# Altium footprint library CP2102-GMR.PcbLib: 3 footprints
Each footprint in its own frame and in the unit in brackets; x right, y up, seen from the top. Pads: shape width x height; smd on the part's side, far side on the other; paste and mask are expansions set on the pad; w line width, h text height; cw(c..) or ccw(c..) is an arc to the next point about the centre after c.
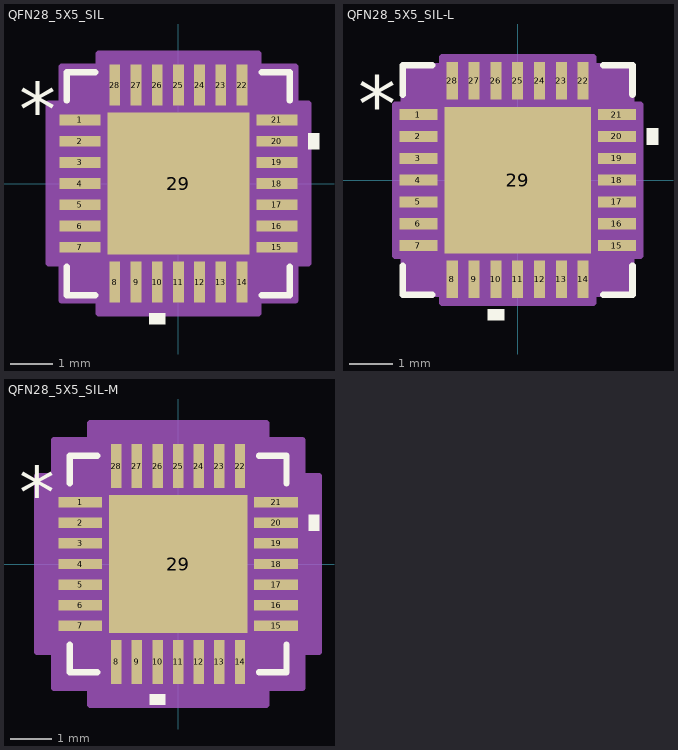
[diagram p0: the footprints below, top view; thin cyan lines are the x and y axes]

## QFN28_5X5_SIL [mil]
pads (29):
  rect 38x10 smd paste+0 mask+0: 1(-91.5,59.06) 2(-91.5,39.37) 3(-91.5,19.68) 4(-91.5,0) 5(-91.5,-19.68) 6(-91.5,-39.37) 7(-91.5,-59.06) 15(91.5,-59.06) 16(91.5,-39.37) 17(91.5,-19.68) 18(91.5,0) 19(91.5,19.68) 20(91.5,39.37) 21(91.5,59.06)
  rect 10x38 smd paste+0 mask+0: 8(-59.06,-91.5) 9(-39.37,-91.5) 10(-19.68,-91.5) 11(0,-91.5) 12(19.68,-91.5) 13(39.37,-91.5) 14(59.06,-91.5) 22(59.06,91.5) 23(39.37,91.5) 24(19.68,91.5) 25(0,91.5) 26(-19.68,91.5) 27(-39.37,91.5) 28(-59.06,91.5)
  rect 132x132 smd paste-66 mask+0: 29(0,0)
Top Overlay:
  region: -12.19,-120.5 -27.18,-120.5 -27.18,-130.5 -12.19,-130.5
  region: 120.5,46.87 130.5,46.87 130.5,31.87 120.5,31.87
  lines w6: -103.5,-77.16 -103.5,-103.5 -77.16,-103.5 ; -103.5,77.16 -103.5,103.5 -77.16,103.5 ; 77.16,-103.5 103.5,-103.5 103.5,-77.16 ; 77.16,103.5 103.5,103.5 103.5,77.16
  text "*" at -148,43.9 h50
Top Paste:
  region: -3.94,62.06 -62.06,62.06 -62.06,3.94 -3.94,3.94
  region: -3.94,-3.94 -62.06,-3.94 -62.06,-62.06 -3.94,-62.06
  region: 62.06,62.06 3.94,62.06 3.94,3.94 62.06,3.94
  region: 62.06,-3.94 3.94,-3.94 3.94,-62.06 62.06,-62.06
Mechanical 13:
  lines w1: -98.5,48.5 -48.5,98.5 ; -98.5,-98.5 98.5,-98.5 ; -98.5,-98.5 -98.5,98.5 ; -98.5,-98.5 -98.5,-98.5 ; -98.5,-65.06 -98.5,-53.06 ; -98.5,-65.06 -98.5,-53.06 ; -98.5,-65.06 -98.5,-65.06 ; -98.5,-53.06 -98.5,-53.06 ; -98.5,-45.37 -98.5,-33.37 ; -98.5,-45.37 -98.5,-33.37 ; -98.5,-45.37 -98.5,-45.37 ; -98.5,-33.37 -98.5,-33.37 ; -98.5,-25.68 -98.5,-13.69 ; -98.5,-25.68 -98.5,-13.69 ; -98.5,-25.68 -98.5,-25.68 ; -98.5,-13.69 -98.5,-13.69 ; -98.5,-6 -98.5,6 ; -98.5,-6 -98.5,6 ; -98.5,-6 -98.5,-6 ; -98.5,6 -98.5,6 ; -98.5,13.69 -98.5,25.68 ; -98.5,13.69 -98.5,25.68 ; -98.5,13.69 -98.5,13.69 ; -98.5,25.68 -98.5,25.68 ; -98.5,33.37 -98.5,45.37 ; -98.5,33.37 -98.5,45.37 ; -98.5,33.37 -98.5,33.37 ; -98.5,45.37 -98.5,45.37 ; -98.5,53.06 -98.5,65.06 ; -98.5,53.06 -98.5,65.06 ; -98.5,53.06 -98.5,53.06 ; -98.5,65.06 -98.5,65.06 ; -98.5,98.5 98.5,98.5 ; -98.5,98.5 -98.5,98.5 ; -65.06,-98.5 -53.06,-98.5 ; -65.06,-98.5 -65.06,-98.5 ; -65.06,-98.5 -53.06,-98.5 ; -65.06,98.5 -53.06,98.5 ; -65.06,98.5 -53.06,98.5 ; -65.06,98.5 -65.06,98.5 ; -53.06,-98.5 -53.06,-98.5 ; -53.06,98.5 -53.06,98.5 ; -45.37,-98.5 -33.37,-98.5 ; -45.37,-98.5 -45.37,-98.5 ; -45.37,-98.5 -33.37,-98.5 ; -45.37,98.5 -33.37,98.5 ; -45.37,98.5 -33.37,98.5 ; -45.37,98.5 -45.37,98.5 ; -33.37,-98.5 -33.37,-98.5 ; -33.37,98.5 -33.37,98.5 ; -25.68,-98.5 -13.69,-98.5 ; -25.68,-98.5 -25.68,-98.5 ; -25.68,-98.5 -13.69,-98.5 ; -25.68,98.5 -13.69,98.5 ; -25.68,98.5 -13.69,98.5 ; -25.68,98.5 -25.68,98.5 ; -13.69,-98.5 -13.69,-98.5 ; -13.69,98.5 -13.69,98.5 ; -6,-98.5 6,-98.5 ; -6,-98.5 -6,-98.5 ; -6,-98.5 6,-98.5 ; -6,98.5 6,98.5 ; -6,98.5 6,98.5 ; -6,98.5 -6,98.5 ; 6,-98.5 6,-98.5 ; 6,98.5 6,98.5 ; 13.69,-98.5 25.68,-98.5 ; 13.69,-98.5 13.69,-98.5 ; 13.69,-98.5 25.68,-98.5 ; 13.69,98.5 25.68,98.5 ; 13.69,98.5 25.68,98.5 ; 13.69,98.5 13.69,98.5 ; 25.68,-98.5 25.68,-98.5 ; 25.68,98.5 25.68,98.5 ; 33.37,-98.5 45.37,-98.5 ; 33.37,-98.5 33.37,-98.5 ; 33.37,-98.5 45.37,-98.5 ; 33.37,98.5 45.37,98.5 ; 33.37,98.5 45.37,98.5 ; 33.37,98.5 33.37,98.5 ; 45.37,-98.5 45.37,-98.5 ; 45.37,98.5 45.37,98.5 ; 53.06,-98.5 65.06,-98.5 ; 53.06,-98.5 53.06,-98.5 ; 53.06,-98.5 65.06,-98.5 ; 53.06,98.5 65.06,98.5 ; 53.06,98.5 65.06,98.5 ; 53.06,98.5 53.06,98.5 ; 65.06,-98.5 65.06,-98.5 ; 65.06,98.5 65.06,98.5 ; 98.5,-98.5 98.5,-98.5 ; 98.5,-98.5 98.5,98.5 ; 98.5,-65.06 98.5,-53.06 ; 98.5,-65.06 98.5,-65.06 ; 98.5,-65.06 98.5,-53.06 ; 98.5,-53.06 98.5,-53.06 ; 98.5,-45.37 98.5,-33.37 ; 98.5,-45.37 98.5,-45.37 ; 98.5,-45.37 98.5,-33.37 ; 98.5,-33.37 98.5,-33.37 ; 98.5,-25.68 98.5,-13.69 ; 98.5,-25.68 98.5,-25.68 ; 98.5,-25.68 98.5,-13.69 ; 98.5,-13.69 98.5,-13.69 ; 98.5,-6 98.5,6 ; 98.5,-6 98.5,-6 ; 98.5,-6 98.5,6 ; 98.5,6 98.5,6 ; 98.5,13.69 98.5,25.68 ; 98.5,13.69 98.5,13.69 ; 98.5,13.69 98.5,25.68 ; 98.5,25.68 98.5,25.68 ; 98.5,33.37 98.5,45.37 ; 98.5,33.37 98.5,33.37 ; 98.5,33.37 98.5,45.37 ; 98.5,45.37 98.5,45.37 ; 98.5,53.06 98.5,65.06 ; 98.5,53.06 98.5,53.06 ; 98.5,53.06 98.5,65.06 ; 98.5,65.06 98.5,65.06 ; 98.5,98.5 98.5,98.5
  text "*" at -85,43.9 h50
Mechanical 15:
  region: -74.06,-108.5 -108.5,-108.5 -108.5,-74.06 -120.5,-74.06 -120.5,74.06 -108.5,74.06 -108.5,108.5 -74.06,108.5 -74.06,120.5 74.06,120.5 74.06,108.5 108.5,108.5 108.5,74.06 120.5,74.06 120.5,-74.06 108.5,-74.06 108.5,-108.5 74.06,-108.5 74.06,-120.5 -74.06,-120.5
  lines w6: -120.5,-74.06 -108.5,-74.06 -108.5,-108.5 -74.06,-108.5 -74.06,-120.5 74.06,-120.5 74.06,-108.5 108.5,-108.5 108.5,-74.06 120.5,-74.06 120.5,74.06 108.5,74.06 108.5,108.5 74.06,108.5 74.06,120.5 -74.06,120.5 -74.06,108.5 -108.5,108.5 -108.5,74.06 -120.5,74.06 -120.5,-74.06
3D body "QFN28_5X5_SIL.step": height 39.09, standoff 0, extent -98.5,-98.5 98.5,98.5

## QFN28_5X5_SIL-L [mil]
pads (29):
  rect 34x10 smd paste+0 mask+0: 1(-89.5,59.06) 2(-89.5,39.37) 3(-89.5,19.68) 4(-89.5,0) 5(-89.5,-19.68) 6(-89.5,-39.37) 7(-89.5,-59.06) 15(89.5,-59.06) 16(89.5,-39.37) 17(89.5,-19.68) 18(89.5,0) 19(89.5,19.68) 20(89.5,39.37) 21(89.5,59.06)
  rect 10x34 smd paste+0 mask+0: 8(-59.06,-89.5) 9(-39.37,-89.5) 10(-19.68,-89.5) 11(0,-89.5) 12(19.68,-89.5) 13(39.37,-89.5) 14(59.06,-89.5) 22(59.06,89.5) 23(39.37,89.5) 24(19.68,89.5) 25(0,89.5) 26(-19.68,89.5) 27(-39.37,89.5) 28(-59.06,89.5)
  rect 132x132 smd paste-66 mask+0: 29(0,0)
Top Overlay:
  region: -12.19,-116.5 -27.18,-116.5 -27.18,-126.5 -12.19,-126.5
  region: 116.5,46.87 126.5,46.87 126.5,31.87 116.5,31.87
  lines w6: -103.5,-77.16 -103.5,-103.5 -77.16,-103.5 ; -103.5,77.16 -103.5,103.5 -77.16,103.5 ; 77.16,-103.5 103.5,-103.5 103.5,-77.16 ; 77.16,103.5 103.5,103.5 103.5,77.16
  text "*" at -144,43.9 h50
Top Paste:
  region: -3.94,62.06 -62.06,62.06 -62.06,3.94 -3.94,3.94
  region: -3.94,-3.94 -62.06,-3.94 -62.06,-62.06 -3.94,-62.06
  region: 62.06,62.06 3.94,62.06 3.94,3.94 62.06,3.94
  region: 62.06,-3.94 3.94,-3.94 3.94,-62.06 62.06,-62.06
Mechanical 13:
  lines w1: -98.5,48.5 -48.5,98.5 ; -98.5,-98.5 98.5,-98.5 ; -98.5,-98.5 -98.5,98.5 ; -98.5,-98.5 -98.5,-98.5 ; -98.5,-65.06 -98.5,-53.06 ; -98.5,-65.06 -98.5,-53.06 ; -98.5,-65.06 -98.5,-65.06 ; -98.5,-53.06 -98.5,-53.06 ; -98.5,-45.37 -98.5,-33.37 ; -98.5,-45.37 -98.5,-33.37 ; -98.5,-45.37 -98.5,-45.37 ; -98.5,-33.37 -98.5,-33.37 ; -98.5,-25.68 -98.5,-13.69 ; -98.5,-25.68 -98.5,-13.69 ; -98.5,-25.68 -98.5,-25.68 ; -98.5,-13.69 -98.5,-13.69 ; -98.5,-6 -98.5,6 ; -98.5,-6 -98.5,6 ; -98.5,-6 -98.5,-6 ; -98.5,6 -98.5,6 ; -98.5,13.69 -98.5,25.68 ; -98.5,13.69 -98.5,25.68 ; -98.5,13.69 -98.5,13.69 ; -98.5,25.68 -98.5,25.68 ; -98.5,33.37 -98.5,45.37 ; -98.5,33.37 -98.5,45.37 ; -98.5,33.37 -98.5,33.37 ; -98.5,45.37 -98.5,45.37 ; -98.5,53.06 -98.5,65.06 ; -98.5,53.06 -98.5,65.06 ; -98.5,53.06 -98.5,53.06 ; -98.5,65.06 -98.5,65.06 ; -98.5,98.5 98.5,98.5 ; -98.5,98.5 -98.5,98.5 ; -65.06,-98.5 -53.06,-98.5 ; -65.06,-98.5 -65.06,-98.5 ; -65.06,-98.5 -53.06,-98.5 ; -65.06,98.5 -53.06,98.5 ; -65.06,98.5 -53.06,98.5 ; -65.06,98.5 -65.06,98.5 ; -53.06,-98.5 -53.06,-98.5 ; -53.06,98.5 -53.06,98.5 ; -45.37,-98.5 -33.37,-98.5 ; -45.37,-98.5 -45.37,-98.5 ; -45.37,-98.5 -33.37,-98.5 ; -45.37,98.5 -33.37,98.5 ; -45.37,98.5 -33.37,98.5 ; -45.37,98.5 -45.37,98.5 ; -33.37,-98.5 -33.37,-98.5 ; -33.37,98.5 -33.37,98.5 ; -25.68,-98.5 -13.69,-98.5 ; -25.68,-98.5 -25.68,-98.5 ; -25.68,-98.5 -13.69,-98.5 ; -25.68,98.5 -13.69,98.5 ; -25.68,98.5 -13.69,98.5 ; -25.68,98.5 -25.68,98.5 ; -13.69,-98.5 -13.69,-98.5 ; -13.69,98.5 -13.69,98.5 ; -6,-98.5 6,-98.5 ; -6,-98.5 -6,-98.5 ; -6,-98.5 6,-98.5 ; -6,98.5 6,98.5 ; -6,98.5 6,98.5 ; -6,98.5 -6,98.5 ; 6,-98.5 6,-98.5 ; 6,98.5 6,98.5 ; 13.69,-98.5 25.68,-98.5 ; 13.69,-98.5 13.69,-98.5 ; 13.69,-98.5 25.68,-98.5 ; 13.69,98.5 25.68,98.5 ; 13.69,98.5 25.68,98.5 ; 13.69,98.5 13.69,98.5 ; 25.68,-98.5 25.68,-98.5 ; 25.68,98.5 25.68,98.5 ; 33.37,-98.5 45.37,-98.5 ; 33.37,-98.5 33.37,-98.5 ; 33.37,-98.5 45.37,-98.5 ; 33.37,98.5 45.37,98.5 ; 33.37,98.5 45.37,98.5 ; 33.37,98.5 33.37,98.5 ; 45.37,-98.5 45.37,-98.5 ; 45.37,98.5 45.37,98.5 ; 53.06,-98.5 65.06,-98.5 ; 53.06,-98.5 53.06,-98.5 ; 53.06,-98.5 65.06,-98.5 ; 53.06,98.5 65.06,98.5 ; 53.06,98.5 65.06,98.5 ; 53.06,98.5 53.06,98.5 ; 65.06,-98.5 65.06,-98.5 ; 65.06,98.5 65.06,98.5 ; 98.5,-98.5 98.5,-98.5 ; 98.5,-98.5 98.5,98.5 ; 98.5,-65.06 98.5,-53.06 ; 98.5,-65.06 98.5,-65.06 ; 98.5,-65.06 98.5,-53.06 ; 98.5,-53.06 98.5,-53.06 ; 98.5,-45.37 98.5,-33.37 ; 98.5,-45.37 98.5,-45.37 ; 98.5,-45.37 98.5,-33.37 ; 98.5,-33.37 98.5,-33.37 ; 98.5,-25.68 98.5,-13.69 ; 98.5,-25.68 98.5,-25.68 ; 98.5,-25.68 98.5,-13.69 ; 98.5,-13.69 98.5,-13.69 ; 98.5,-6 98.5,6 ; 98.5,-6 98.5,-6 ; 98.5,-6 98.5,6 ; 98.5,6 98.5,6 ; 98.5,13.69 98.5,25.68 ; 98.5,13.69 98.5,13.69 ; 98.5,13.69 98.5,25.68 ; 98.5,25.68 98.5,25.68 ; 98.5,33.37 98.5,45.37 ; 98.5,33.37 98.5,33.37 ; 98.5,33.37 98.5,45.37 ; 98.5,45.37 98.5,45.37 ; 98.5,53.06 98.5,65.06 ; 98.5,53.06 98.5,53.06 ; 98.5,53.06 98.5,65.06 ; 98.5,65.06 98.5,65.06 ; 98.5,98.5 98.5,98.5
  text "*" at -85,43.9 h50
Mechanical 15:
  region: -68.06,-102.5 -102.5,-102.5 -102.5,-68.06 -110.5,-68.06 -110.5,68.06 -102.5,68.06 -102.5,102.5 -68.06,102.5 -68.06,110.5 68.06,110.5 68.06,102.5 102.5,102.5 102.5,68.06 110.5,68.06 110.5,-68.06 102.5,-68.06 102.5,-102.5 68.06,-102.5 68.06,-110.5 -68.06,-110.5
  lines w6: -110.5,-68.06 -102.5,-68.06 -102.5,-102.5 -68.06,-102.5 -68.06,-110.5 68.06,-110.5 68.06,-102.5 102.5,-102.5 102.5,-68.06 110.5,-68.06 110.5,68.06 102.5,68.06 102.5,102.5 68.06,102.5 68.06,110.5 -68.06,110.5 -68.06,102.5 -102.5,102.5 -102.5,68.06 -110.5,68.06 -110.5,-68.06
3D body "QFN28_5X5_SIL.step": height 39.09, standoff 0, extent -98.5,-98.5 98.5,98.5

## QFN28_5X5_SIL-M [mil]
pads (29):
  rect 42x10 smd paste+0 mask+0: 1(-93.5,59.06) 2(-93.5,39.37) 3(-93.5,19.68) 4(-93.5,0) 5(-93.5,-19.68) 6(-93.5,-39.37) 7(-93.5,-59.06) 15(93.5,-59.06) 16(93.5,-39.37) 17(93.5,-19.68) 18(93.5,0) 19(93.5,19.68) 20(93.5,39.37) 21(93.5,59.06)
  rect 10x42 smd paste+0 mask+0: 8(-59.06,-93.5) 9(-39.37,-93.5) 10(-19.68,-93.5) 11(0,-93.5) 12(19.68,-93.5) 13(39.37,-93.5) 14(59.06,-93.5) 22(59.06,93.5) 23(39.37,93.5) 24(19.68,93.5) 25(0,93.5) 26(-19.68,93.5) 27(-39.37,93.5) 28(-59.06,93.5)
  rect 132x132 smd paste-66 mask+0: 29(0,0)
Top Overlay:
  region: -12.19,-124.5 -27.18,-124.5 -27.18,-134.5 -12.19,-134.5
  region: 124.5,46.87 134.5,46.87 134.5,31.87 124.5,31.87
  lines w6: -103.5,-77.16 -103.5,-103.5 -77.16,-103.5 ; -103.5,77.16 -103.5,103.5 -77.16,103.5 ; 77.16,-103.5 103.5,-103.5 103.5,-77.16 ; 77.16,103.5 103.5,103.5 103.5,77.16
  text "*" at -152,43.9 h50
Top Paste:
  region: -3.94,62.06 -62.06,62.06 -62.06,3.94 -3.94,3.94
  region: -3.94,-3.94 -62.06,-3.94 -62.06,-62.06 -3.94,-62.06
  region: 62.06,62.06 3.94,62.06 3.94,3.94 62.06,3.94
  region: 62.06,-3.94 3.94,-3.94 3.94,-62.06 62.06,-62.06
Mechanical 13:
  lines w1: -98.5,48.5 -48.5,98.5 ; -98.5,-98.5 98.5,-98.5 ; -98.5,-98.5 -98.5,98.5 ; -98.5,-98.5 -98.5,-98.5 ; -98.5,-65.06 -98.5,-53.06 ; -98.5,-65.06 -98.5,-53.06 ; -98.5,-65.06 -98.5,-65.06 ; -98.5,-53.06 -98.5,-53.06 ; -98.5,-45.37 -98.5,-33.37 ; -98.5,-45.37 -98.5,-33.37 ; -98.5,-45.37 -98.5,-45.37 ; -98.5,-33.37 -98.5,-33.37 ; -98.5,-25.68 -98.5,-13.69 ; -98.5,-25.68 -98.5,-13.69 ; -98.5,-25.68 -98.5,-25.68 ; -98.5,-13.69 -98.5,-13.69 ; -98.5,-6 -98.5,6 ; -98.5,-6 -98.5,6 ; -98.5,-6 -98.5,-6 ; -98.5,6 -98.5,6 ; -98.5,13.69 -98.5,25.68 ; -98.5,13.69 -98.5,25.68 ; -98.5,13.69 -98.5,13.69 ; -98.5,25.68 -98.5,25.68 ; -98.5,33.37 -98.5,45.37 ; -98.5,33.37 -98.5,45.37 ; -98.5,33.37 -98.5,33.37 ; -98.5,45.37 -98.5,45.37 ; -98.5,53.06 -98.5,65.06 ; -98.5,53.06 -98.5,65.06 ; -98.5,53.06 -98.5,53.06 ; -98.5,65.06 -98.5,65.06 ; -98.5,98.5 98.5,98.5 ; -98.5,98.5 -98.5,98.5 ; -65.06,-98.5 -53.06,-98.5 ; -65.06,-98.5 -65.06,-98.5 ; -65.06,-98.5 -53.06,-98.5 ; -65.06,98.5 -53.06,98.5 ; -65.06,98.5 -53.06,98.5 ; -65.06,98.5 -65.06,98.5 ; -53.06,-98.5 -53.06,-98.5 ; -53.06,98.5 -53.06,98.5 ; -45.37,-98.5 -33.37,-98.5 ; -45.37,-98.5 -45.37,-98.5 ; -45.37,-98.5 -33.37,-98.5 ; -45.37,98.5 -33.37,98.5 ; -45.37,98.5 -33.37,98.5 ; -45.37,98.5 -45.37,98.5 ; -33.37,-98.5 -33.37,-98.5 ; -33.37,98.5 -33.37,98.5 ; -25.68,-98.5 -13.69,-98.5 ; -25.68,-98.5 -25.68,-98.5 ; -25.68,-98.5 -13.69,-98.5 ; -25.68,98.5 -13.69,98.5 ; -25.68,98.5 -13.69,98.5 ; -25.68,98.5 -25.68,98.5 ; -13.69,-98.5 -13.69,-98.5 ; -13.69,98.5 -13.69,98.5 ; -6,-98.5 6,-98.5 ; -6,-98.5 -6,-98.5 ; -6,-98.5 6,-98.5 ; -6,98.5 6,98.5 ; -6,98.5 6,98.5 ; -6,98.5 -6,98.5 ; 6,-98.5 6,-98.5 ; 6,98.5 6,98.5 ; 13.69,-98.5 25.68,-98.5 ; 13.69,-98.5 13.69,-98.5 ; 13.69,-98.5 25.68,-98.5 ; 13.69,98.5 25.68,98.5 ; 13.69,98.5 25.68,98.5 ; 13.69,98.5 13.69,98.5 ; 25.68,-98.5 25.68,-98.5 ; 25.68,98.5 25.68,98.5 ; 33.37,-98.5 45.37,-98.5 ; 33.37,-98.5 33.37,-98.5 ; 33.37,-98.5 45.37,-98.5 ; 33.37,98.5 45.37,98.5 ; 33.37,98.5 45.37,98.5 ; 33.37,98.5 33.37,98.5 ; 45.37,-98.5 45.37,-98.5 ; 45.37,98.5 45.37,98.5 ; 53.06,-98.5 65.06,-98.5 ; 53.06,-98.5 53.06,-98.5 ; 53.06,-98.5 65.06,-98.5 ; 53.06,98.5 65.06,98.5 ; 53.06,98.5 65.06,98.5 ; 53.06,98.5 53.06,98.5 ; 65.06,-98.5 65.06,-98.5 ; 65.06,98.5 65.06,98.5 ; 98.5,-98.5 98.5,-98.5 ; 98.5,-98.5 98.5,98.5 ; 98.5,-65.06 98.5,-53.06 ; 98.5,-65.06 98.5,-65.06 ; 98.5,-65.06 98.5,-53.06 ; 98.5,-53.06 98.5,-53.06 ; 98.5,-45.37 98.5,-33.37 ; 98.5,-45.37 98.5,-45.37 ; 98.5,-45.37 98.5,-33.37 ; 98.5,-33.37 98.5,-33.37 ; 98.5,-25.68 98.5,-13.69 ; 98.5,-25.68 98.5,-25.68 ; 98.5,-25.68 98.5,-13.69 ; 98.5,-13.69 98.5,-13.69 ; 98.5,-6 98.5,6 ; 98.5,-6 98.5,-6 ; 98.5,-6 98.5,6 ; 98.5,6 98.5,6 ; 98.5,13.69 98.5,25.68 ; 98.5,13.69 98.5,13.69 ; 98.5,13.69 98.5,25.68 ; 98.5,25.68 98.5,25.68 ; 98.5,33.37 98.5,45.37 ; 98.5,33.37 98.5,33.37 ; 98.5,33.37 98.5,45.37 ; 98.5,45.37 98.5,45.37 ; 98.5,53.06 98.5,65.06 ; 98.5,53.06 98.5,53.06 ; 98.5,53.06 98.5,65.06 ; 98.5,65.06 98.5,65.06 ; 98.5,98.5 98.5,98.5
  text "*" at -85,43.9 h50
Mechanical 15:
  region: -84.06,-118.5 -118.5,-118.5 -118.5,-84.06 -134.5,-84.06 -134.5,84.06 -118.5,84.06 -118.5,118.5 -84.06,118.5 -84.06,134.5 84.06,134.5 84.06,118.5 118.5,118.5 118.5,84.06 134.5,84.06 134.5,-84.06 118.5,-84.06 118.5,-118.5 84.06,-118.5 84.06,-134.5 -84.06,-134.5
  lines w6: -134.5,-84.06 -118.5,-84.06 -118.5,-118.5 -84.06,-118.5 -84.06,-134.5 84.06,-134.5 84.06,-118.5 118.5,-118.5 118.5,-84.06 134.5,-84.06 134.5,84.06 118.5,84.06 118.5,118.5 84.06,118.5 84.06,134.5 -84.06,134.5 -84.06,118.5 -118.5,118.5 -118.5,84.06 -134.5,84.06 -134.5,-84.06
3D body "QFN28_5X5_SIL.step": height 39.09, standoff 0, extent -98.5,-98.5 98.5,98.5